# EAGLE library part SX1308 (library usb)
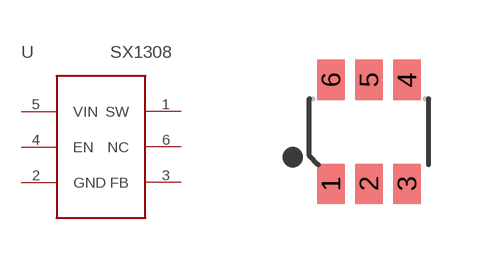
[diagram p25: symbol with the pads of SOT-23-6; footprint SOT-23-6]

Designator prefix U

## SX1308  [SOT-23-6]
1  SW
2  GND
3  FB
4  EN
5  VIN
6  NC

## Footprint SOT-23-6 (pad centres in mm)
smd 0.69 x 1: 1 -0.95,-1.3; 2 0,-1.3; 3 0.95,-1.3; 4 0.95,1.3; 5 0,1.3; 6 -0.95,1.3